# Altium schematic symbol library 23cm_amplifier_1.SCHLIB: 6 symbols
Pins are listed as number, name and electrical type; pins without a type are passive.

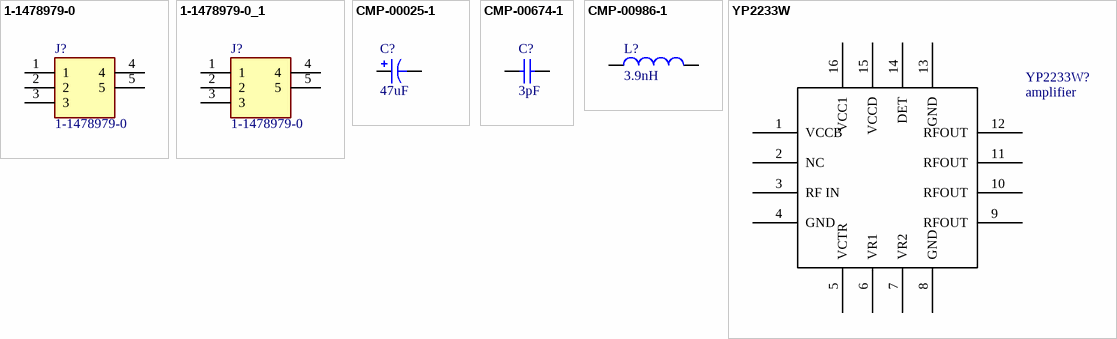
[diagram p0: symbols 1-1478979-0 to YP2233W]

## 1-1478979-0
designator J?
RF IN; Manufacturer_Name: TE Connectivity; Datasheet Link: http://www.te.com/commerce/DocumentDelivery/DDEController?Action=showdoc&DocId=Customer+Drawing%7F1478979%7FB%7Fpdf%7FEnglish%7FENG_CD_1478979_B.pdf%7F1-1478979-0; Height: 10mm; Manufacturer_Part_Number: 1-1478979-0; Arrow Part Number: 1-1478979-0; Arrow Price/Stock: https://www.arrow.com/en/products/1-1478979-0/te-connectivity; Mouser Part Number: 571-1-1478979-0; Mouser Price/Stock: https://www.mouser.co.uk/ProductDetail/TE-Connectivity/1-1478979-0?qs=Vcr9%2FL0R50jLfIYfi0kfuw%3D%3D
footprint 114789790
pins: 1, 2, 3, 4, 5

## 1-1478979-0_1
designator J?, comment 1-1478979-0
RF OUT; Manufacturer_Name: TE Connectivity; Datasheet Link: http://www.te.com/commerce/DocumentDelivery/DDEController?Action=showdoc&DocId=Customer+Drawing%7F1478979%7FB%7Fpdf%7FEnglish%7FENG_CD_1478979_B.pdf%7F1-1478979-0; Height: 10mm; Manufacturer_Part_Number: 1-1478979-0; Arrow Part Number: 1-1478979-0; Arrow Price/Stock: https://www.arrow.com/en/products/1-1478979-0/te-connectivity; Mouser Part Number: 571-1-1478979-0; Mouser Price/Stock: https://www.mouser.co.uk/ProductDetail/TE-Connectivity/1-1478979-0?qs=Vcr9%2FL0R50jLfIYfi0kfuw%3D%3D
footprint 114789790
pins: 1, 2, 3, 4, 5

## CMP-00025-1
designator C?, comment value 47uF  (hidden comment: F980J476MMA)
Tantalkondensatoren - fest für SMD 47uF 6.3V 20% 0603; Manufacturer: AVX; Manufacturer 1: Kyocera AVX; P/N: TPSF227K006R0200; Polarity: Polarized; Tolerance: 10%; PackageDescription: 2-Pin SMT Capacitor, 6.0 x 3.2 mm Body; PackageReference: CAPC6032; Technology: Tantalum; Rated Voltage: 6.3V; Mounting Technology: Surface Mount; ComponentLink3Description: Mouser; ComponentLink3URL: https://www.mouser.ch/ProductDetail/647-F980J476MMA; Manufacturer Part Number 1: TPSF227K006R0200
footprint CAPMP2312(6032)20_N (SMT Capacitor, 2 Leads, Body 6.0x3.5x2.0mm 6032 Case F / L)
footprint CAPMP2312(6032)20_L (SMT Capacitor, 2 Leads, Body 6.0x3.5x2.0mm C 6032 Case F / L)
footprint CAPMP2312(6032)20_M (SMT Capacitor, 2 Leads, Body 6.0x3.5x2.0mm C 6032 Case F / L)
pins: N, P

## CMP-00674-1
designator C?, comment value 3pF  (hidden comment: 04023J3R0ABSTR)
Silizium-HF-Kondensatoren / Dünnfilm 25V 3pF .05pFTol ThinFilm 0402; Manufacturer: Murata; Manufacturer Part Number 1: GRM1555C1E560JA01D; Tolerance: 5%; Dielectric: C0G(NP0); Mount: Surface Mount; Case/Package: 0402; Case Code (Metric): 1005; Case Code (Imperial): 0402; Min Operating Temperature: -55°C; Max Operating Temperature: 125°C; Capacitance: 3pF; Voltage Rating (DC): 25V; Termination: SMD/SMT; Length: 1mm; Height: 0.5mm; Width: 0.02inch; Thickness: 0.022inch; Depth: 0.5mm; Lead Free: Lead Free; Manufacturer Part Number: 04023J3R0ABSTR; ComponentLink1Description: Mouser; ComponentLink1URL: https://www.mouser.ch/ProductDetail/581-04023J3R0ABSTR; Manufacturer 1: Murata
simulation model SIM-00001-1 (Capacitor generic model)
footprint CAPC0402(1005)70_N (Chip Capacitor, Body 1.0x0.5mm, Height 0.7mm, IPC Medium Density)
footprint CAPC0402(1005)70_L (Chip Capacitor, Body 1.0x0.5mm, Height 0.7mm, IPC High Density)
footprint CAPC0402(1005)70_M (Chip Capacitor, Body 1.0x0.5mm, Height 0.7mm, IPC Low Density)
pins: 1, 2
1 alternate drawing of the same symbol

## CMP-00986-1
designator L?, comment value 3.9nH  (hidden comment: LQW15AN3N9B8ZD)
Festinduktivitäten 0402 3.9nH 1950mA 0.03ohms 10GHz; Manufacturer 1: Samsung; Manufacturer Part Number 1: CIH05T27NJNC; Core Material: Ceramic; Tolerance: 5%; Current Rating: 250mA; Shielding: Unshielded; DC Resistance (DCR): 900mR; Self Resonant Frequency: 1.6GHz; Mount: Surface Mount; Case/Package: 0402; Case Code (Metric): 1005; Case Code (Imperial): 0402; Min Operating Temperature: -55°C; Max Operating Temperature: 125°C; Packaging: Tape and Reel; Inductance: 3.9nH; Test Frequency: 10GHz; Max DC Current: 250mA; DC Current: 250mA; Military Standard: Not; Length: 0.039inch; Height: 0.55mm; Width: 0.02inch; Depth: 0.55mm; Radiation Hardening: No; ComponentLink1Description: Mouser; ComponentLink1URL: https://www.mouser.ch/ProductDetail/81-LQW15AN3N9B8ZD
footprint INDC1005X07N (Chip Inductor, 2-Leads, Body 1.00x0.50mm, IPC Medium Density)
footprint INDC1005X07L (Chip Inductor, 2-Leads, Body 1.00x0.50mm, IPC High Density)
footprint INDC1005X07M (Chip Inductor, 2-Leads, Body 1.00x0.50mm, IPC Low Density)
pins: 1, 2

## YP2233W
designator YP2233W?, comment amplifier
ComponentLink1Description: Datasheet; ComponentLink1URL: http://pro366bdc.pic21.websiteonline.cn/upload/innotionyp2233wdatasheet_8gzy.pdf
footprint YP2233W (YP2233W amplifier)
pins: 1 VCCB, 2 NC, 3 RF IN, 4 GND, 5 VCTR, 6 VR1, 7 VR2, 8 GND, 9 RFOUT, 10 RFOUT, 11 RFOUT, 12 RFOUT, 13 GND, 14 DET, 15 VCCD, 16 VCC1